# EAGLE library part PB_STATUS_CONN (library PTS_Board_Lib)
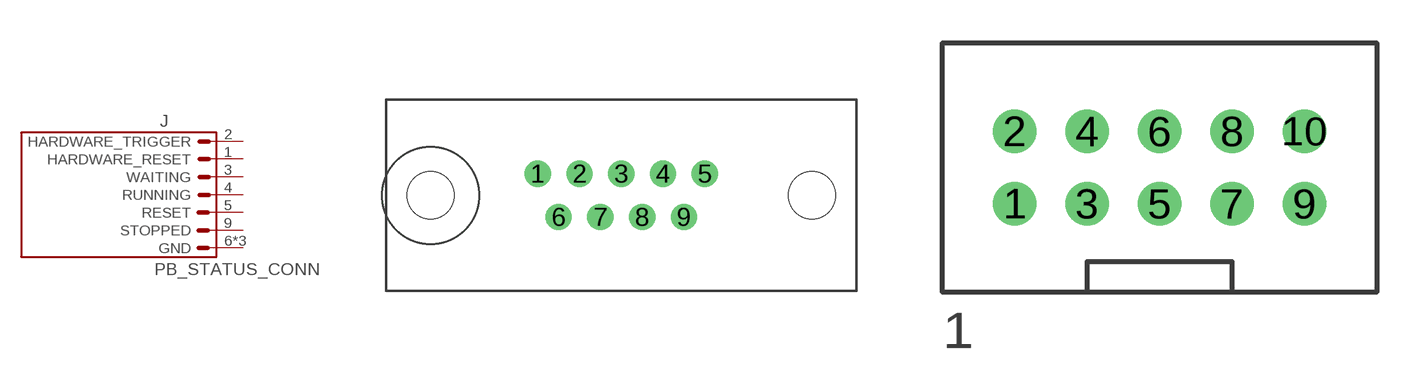
[diagram p6: symbol with the pads of FCI-D09P90C6PA00LF; footprints FCI-D09P90C6PA00LF, FCI-66506-066LF]

Designator prefix J

## PB_STATUS_CONN-RACK-DB9F  [FCI-D09P90C6PA00LF]
1  HARDWARE_RESET  out
2  HARDWARE_TRIGGER  out
3  WAITING  in
4  RUNNING  in
5  RESET  in
6  GND  pas
7  GND  pas
8  GND  pas
9  STOPPED  in

## PB_STATUS_CONN-BRD-HDR10  [FCI-66506-066LF]
1  GND  pas
2  HARDWARE_TRIGGER  out
3  GND  pas
4  HARDWARE_RESET  out
5  GND  pas
6  WAITING  in
7  GND  pas
8  RUNNING  in
9  STOPPED  in
10  RESET  in

## Footprint FCI-D09P90C6PA00LF (pad centres in mm)
Male D-Sub 9-Pos Low Profile Press Fit.
drill 1.15: 1 -5.48,1.42; 2 -2.74,1.42; 3 0,1.42; 4 2.74,1.42; 5 5.48,1.42; 6 -4.11,-1.42; 7 -1.37,-1.42; 8 1.37,-1.42; 9 4.11,-1.42
hole 3.1 at -12.495,0
hole 3.1 at 12.495,0

## Footprint FCI-66506-066LF (pad centres in mm)
4-Wall Shrouded Header 2x5 Positions
drill 1.016: 1 -5.08,-1.27; 2 -5.08,1.27; 3 -2.54,-1.27; 4 -2.54,1.27; 5 0,-1.27; 6 0,1.27; 7 2.54,-1.27; 8 2.54,1.27; 9 5.08,-1.27; 10 5.08,1.27